# EAGLE library part MOD_AE_FT232_DIP24 (library akita)
Akizuki's FT232, DIP24
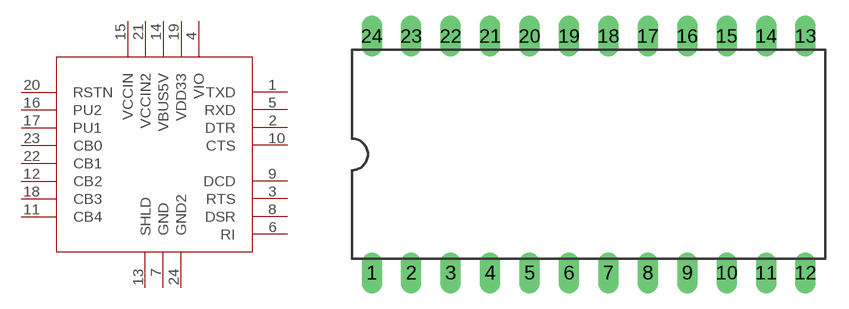
[diagram p193: symbol with the pads of DIP24_600MIL; footprint DIP24_600MIL]

Designator prefix U

## MOD_AE_FT232_DIP24  [DIP24_600MIL]
1  TXD
2  DTR
3  RTS
4  VIO
5  RXD
6  RI
7  GND
8  DSR
9  DCD
10  CTS
11  CB4
12  CB2
13  SHLD
14  VBUS5V
15  VCCIN
16  PU2
17  PU1
18  CB3
19  VDD33
20  RSTN
21  VCCIN2
22  CB1
23  CB0
24  GND2

## Footprint DIP24_600MIL (pad centres in mm)
drill 0.813 long: 1 -13.97,-7.62; 2 -11.43,-7.62; 3 -8.89,-7.62; 4 -6.35,-7.62; 5 -3.81,-7.62; 6 -1.27,-7.62; 7 1.27,-7.62; 8 3.81,-7.62; 9 6.35,-7.62; 10 8.89,-7.62; 11 11.43,-7.62; 12 13.97,-7.62; 13 13.97,7.62; 14 11.43,7.62; 15 8.89,7.62; 16 6.35,7.62; 17 3.81,7.62; 18 1.27,7.62; 19 -1.27,7.62; 20 -3.81,7.62; 21 -6.35,7.62; 22 -8.89,7.62; 23 -11.43,7.62; 24 -13.97,7.62